# EAGLE library part TFM-105-02-L-DH (library Jack-connectors)
Samtec 10pin dual row horizontal SMT .050" Tiger Eye™ High Reliability Terminal Strip
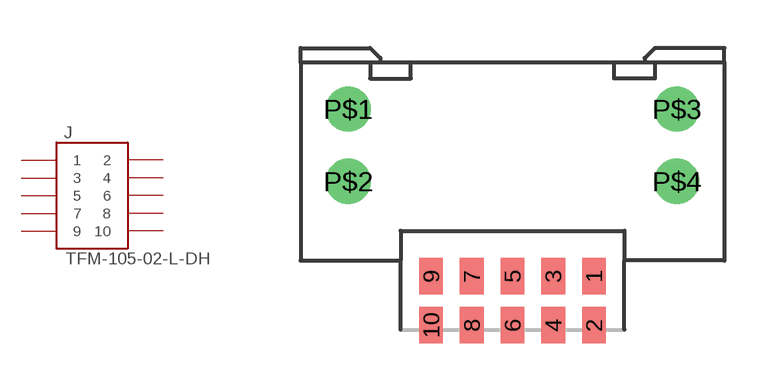
[diagram p11: symbol with the pads of TFM-105-02-L-DH; footprint TFM-105-02-L-DH]

Designator prefix J

## TFM-105-02-L-DH (DESCRIPTION: Samtec 10 pin dual row horizontal SMT .050" Tiger Eye™ High Reliability Terminal Strip; PACK: TFM-105-02-L-DH)  [TFM-105-02-L-DH]
1  1  pas
2  2  pas
3  3  pas
4  4  pas
5  5  pas
6  6  pas
7  7  pas
8  8  pas
9  9  pas
10  10  pas

## Footprint TFM-105-02-L-DH (pad centres in mm)
smd 0.74 x 1.14: 1 2.54,-5.23; 2 2.54,-6.76; 3 1.27,-5.23; 4 1.27,-6.76; 5 0,-5.23; 6 0,-6.76; 7 -1.27,-5.23; 8 -1.27,-6.76; 9 -2.54,-5.23; 10 -2.54,-6.76
drill 0.9: P$1 -5.13,0; P$2 -5.13,-2.26; P$3 5.13,0; P$4 5.13,-2.26